# Altium footprint library descret_pcb.PcbLib: 152 footprints (part 9 of 10)
Each footprint in its own frame and in the unit in brackets; x right, y up, seen from the top. Pads: shape width x height; smd on the part's side, far side on the other; paste and mask are expansions set on the pad; w line width, h text height; cw(c..) or ccw(c..) is an arc to the next point about the centre after c.
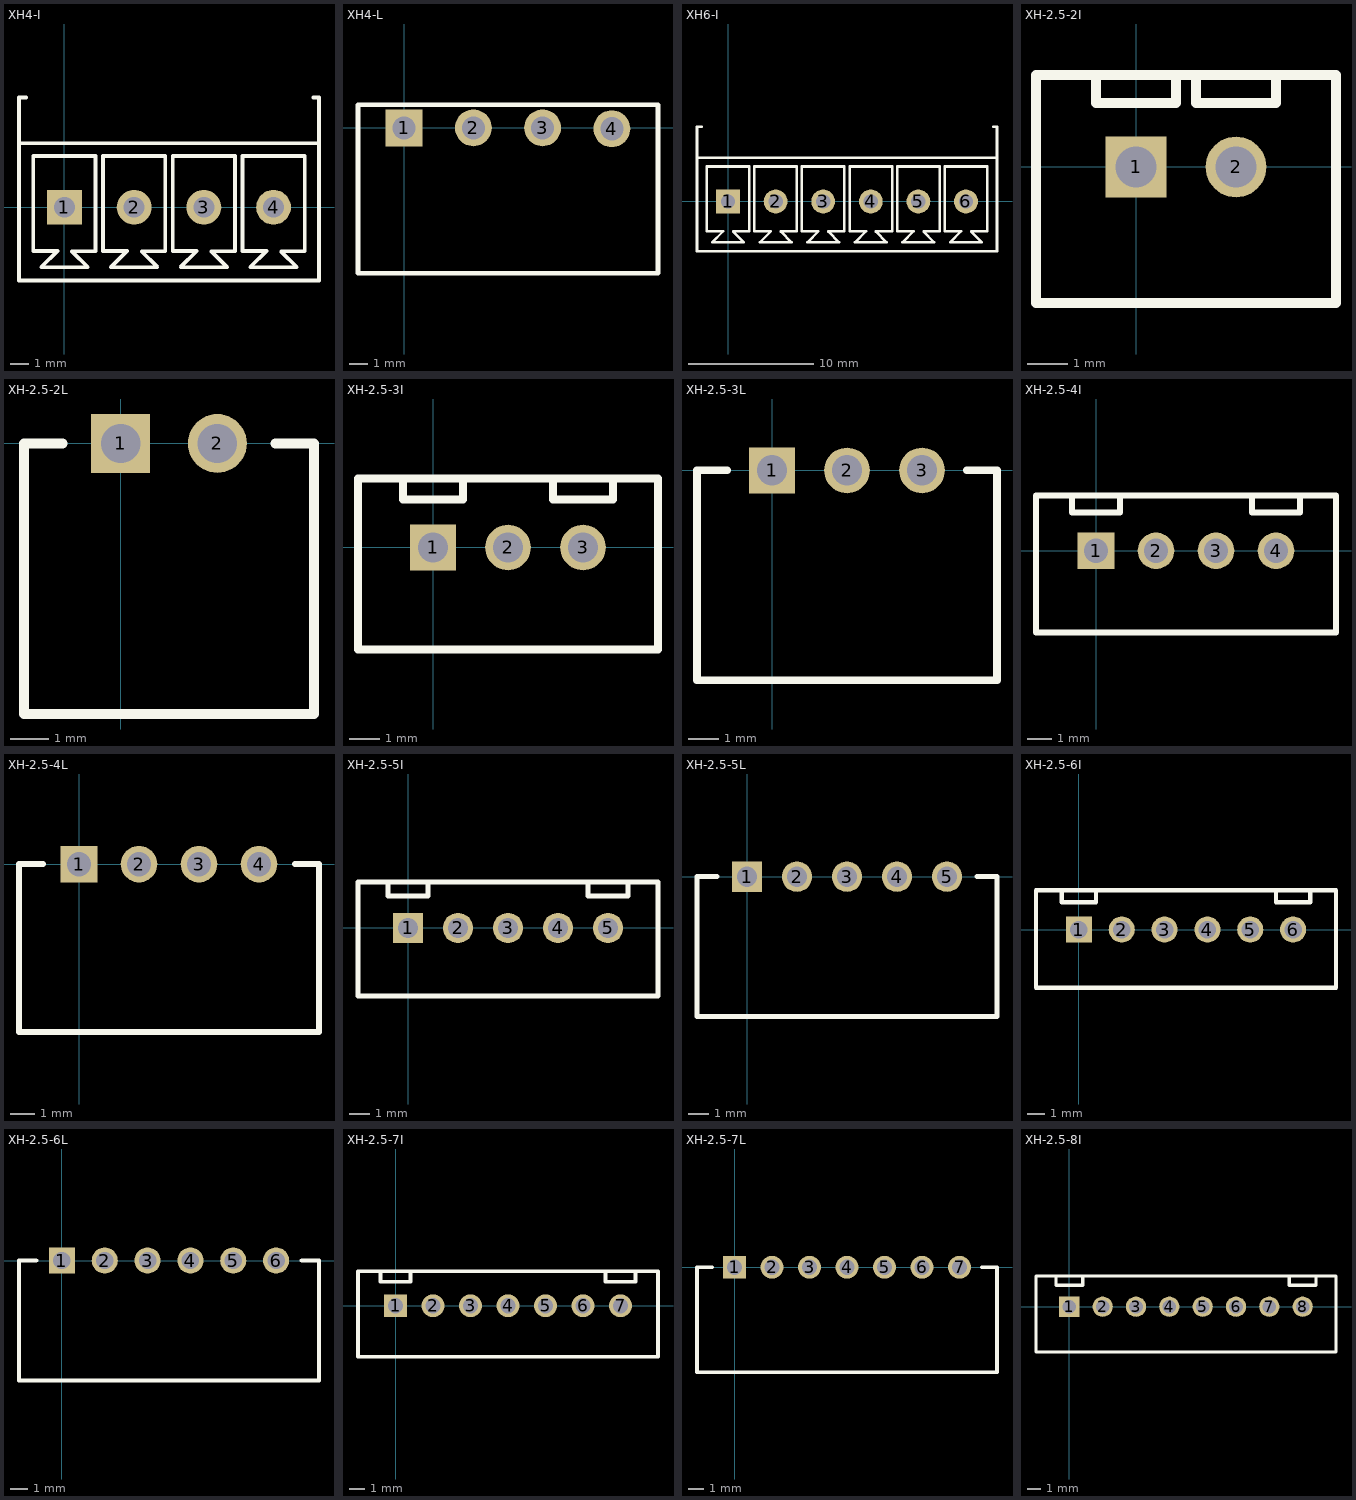
[diagram p8: the footprints below, top view; thin cyan lines are the x and y axes]

## XH4-I [mil]
pads (4):
  rect 75x75 hole 45: 1(0,0)
  round 75 hole 45: 2(150,0) 3(300,0) 4(450,0)
TopOverlay:
  lines w8: -82.68,236.22 -97.83,236.22 -97.83,137.8 ; -66.93,109.65 -66.93,-93.9 -15.16,-93.9 -50,-128.74 50,-128.74 16.33,-95.07 16.33,-94.49 ; -66.93,110.24 66.93,110.24 66.93,-94.49 16.92,-94.49 ; 83.07,109.65 83.07,-93.9 134.84,-93.9 100,-128.74 200,-128.74 166.33,-95.07 166.33,-94.49 ; 83.07,110.24 216.93,110.24 216.93,-94.49 166.92,-94.49 ; 233.07,109.65 233.07,-93.9 284.84,-93.9 250,-128.74 350,-128.74 316.33,-95.07 316.33,-94.49 ; 233.07,110.24 366.93,110.24 366.93,-94.49 316.92,-94.49 ; 383.07,109.65 383.07,-93.9 434.84,-93.9 400,-128.74 500,-128.74 466.33,-95.07 466.33,-94.49 ; 383.07,110.24 516.93,110.24 516.93,-94.49 466.92,-94.49 ; 536.22,236.22 547.83,236.22 547.83,137.8 ; -97.83,137.8 -97.83,-157.48 547.84,-157.48 547.83,137.8 ; -97.83,137.79 547.84,137.79
3D body "User Library-1803442.STEP": height 362.2, standoff -133.86, extent -102.36,-152 552.36,133.43

## XH4-L [mil]
pads (4):
  rect 80x80 hole 50: 1(0,0)
  round 80 hole 50: 2(150,0) 3(300,0) 4(450,-2)
TopOverlay:
  lines w10: -100,-315 550,-315 550,50 -100,50 -100,-315

## XH6-I [mil]
pads (6):
  rect 75x75 hole 45: 1(0,0)
  round 75 hole 45: 2(150,0) 3(300,0) 4(450,0) 5(600,0) 6(750,0)
TopOverlay:
  lines w8: -82.68,236.22 -97.83,236.22 -97.83,137.8 ; -66.93,109.65 -66.93,-93.9 -15.16,-93.9 -50,-128.74 50,-128.74 16.33,-95.07 16.33,-94.49 ; -66.93,110.24 66.93,110.24 66.93,-94.49 16.92,-94.49 ; 83.07,109.65 83.07,-93.9 134.84,-93.9 100,-128.74 200,-128.74 166.33,-95.07 166.33,-94.49 ; 83.07,110.24 216.93,110.24 216.93,-94.49 166.92,-94.49 ; 233.07,109.65 233.07,-93.9 284.84,-93.9 250,-128.74 350,-128.74 316.33,-95.07 316.33,-94.49 ; 233.07,110.24 366.93,110.24 366.93,-94.49 316.92,-94.49 ; 383.07,109.65 383.07,-93.9 434.84,-93.9 400,-128.74 500,-128.74 466.33,-95.07 466.33,-94.49 ; 383.07,110.24 516.93,110.24 516.93,-94.49 466.92,-94.49 ; 533.07,109.65 533.07,-93.9 584.84,-93.9 550,-128.74 650,-128.74 616.33,-95.07 616.33,-94.49 ; 533.07,110.24 666.93,110.24 666.93,-94.49 616.92,-94.49 ; 683.07,109.65 683.07,-93.9 734.84,-93.9 700,-128.74 800,-128.74 766.33,-95.07 766.33,-94.49 ; 683.07,110.24 816.93,110.24 816.93,-94.49 766.92,-94.49 ; 836.22,236.22 847.83,236.22 847.83,137.8 ; -97.83,137.79 847.83,137.79 ; -97.83,137.8 -97.83,-157.48 847.83,-157.48 847.83,137.8
3D body "User Library-1803468.STEP": height 362.2, standoff -133.86, extent -102.43,-153.2 852.29,132.24

## XH-2.5-2I [mil]
pads (2):
  rect 60x60 hole 40: 1(0,0)
  round 60 hole 40: 2(98.43,0)
TopOverlay:
  lines w10: -39.37,90.55 -39.37,62.99 39.37,62.99 39.37,90.55 ; 59.06,90.55 59.06,62.99 137.8,62.99 137.8,90.55 ; -98.43,-133.86 -98.43,90.55 196.85,90.55 196.85,-133.86 -98.43,-133.86

## XH-2.5-2L [mil]
pads (2):
  rect 60x60 hole 40: 1(0,0)
  round 60 hole 40: 2(98.43,0)
TopOverlay:
  lines w10: -59.06,0 -98.43,0 -98.43,-275.59 196.85,-275.59 196.85,0 157.48,0

## XH-2.5-3I [mil]
pads (3):
  rect 60x60 hole 40: 1(0,0)
  round 60 hole 40: 2(98.43,0) 3(196.85,0)
TopOverlay:
  lines w10: -39.37,90.55 -39.37,62.99 39.37,62.99 39.37,90.55 ; 157.48,90.55 157.48,62.99 236.22,62.99 236.22,90.55 ; -98.43,-133.86 295.28,-133.86 295.28,90.55 -98.43,90.55 -98.43,-133.86

## XH-2.5-3L [mil]
pads (3):
  rect 60x60 hole 40: 1(0,0)
  round 60 hole 40: 2(98.43,0) 3(196.85,0)
TopOverlay:
  lines w10: -59.06,0 -98.43,0 -98.43,-275.59 295.28,-275.59 295.28,0 255.91,0

## XH-2.5-4I [mil]
pads (4):
  rect 60x60 hole 40: 1(0,0)
  round 60 hole 40: 2(98.43,0) 3(196.85,0) 4(295.28,0)
TopOverlay:
  lines w10: -39.37,90.55 -39.37,62.99 39.37,62.99 39.37,90.55 ; 255.91,90.55 255.91,62.99 334.65,62.99 334.65,90.55 ; -98.43,-133.86 -98.43,90.55 393.7,90.55 393.7,-133.86 -98.43,-133.86

## XH-2.5-4L [mil]
pads (4):
  rect 60x60 hole 40: 1(0,0)
  round 60 hole 40: 2(98.43,0) 3(196.85,0) 4(295.28,0)
TopOverlay:
  lines w10: -59.06,0 -98.43,0 -98.43,-275.59 393.7,-275.59 393.7,0 354.33,0

## XH-2.5-5I [mil]
pads (5):
  rect 60x60 hole 40: 1(0,0)
  round 60 hole 40: 2(98.43,0) 3(196.85,0) 4(295.28,0) 5(393.7,0)
TopOverlay:
  lines w10: -39.37,90.55 -39.37,62.99 39.37,62.99 39.37,90.55 ; 354.33,90.55 354.33,62.99 433.07,62.99 433.07,90.55 ; -98.43,-133.86 -98.43,90.55 492.13,90.55 492.13,-133.86 -98.43,-133.86

## XH-2.5-5L [mil]
pads (5):
  rect 60x60 hole 40: 1(0,0)
  round 60 hole 40: 2(98.43,0) 3(196.85,0) 4(295.28,0) 5(393.7,0)
TopOverlay:
  lines w10: -59.06,0 -98.43,0 -98.43,-275.59 492.13,-275.59 492.13,0 452.76,0

## XH-2.5-6I [mil]
pads (6):
  rect 60x60 hole 40: 1(0,0)
  round 60 hole 40: 2(98.43,0) 3(196.85,0) 4(295.28,0) 5(393.7,0) 6(492.13,0)
TopOverlay:
  lines w10: -39.37,90.55 -39.37,62.99 39.37,62.99 39.37,90.55 ; 452.76,90.55 452.76,62.99 531.5,62.99 531.5,90.55 ; -98.43,-133.86 590.55,-133.86 590.55,90.55 -98.43,90.55 -98.43,-133.86

## XH-2.5-6L [mil]
pads (6):
  rect 60x60 hole 40: 1(0,0)
  round 60 hole 40: 2(98.43,0) 3(196.85,0) 4(295.28,0) 5(393.7,0) 6(492.13,0)
TopOverlay:
  lines w10: -59.06,0 -98.43,0 -98.43,-275.59 590.55,-275.59 590.55,0 551.18,0

## XH-2.5-7I [mil]
pads (7):
  rect 60x60 hole 40: 1(0,0)
  round 60 hole 40: 2(98.43,0) 3(196.85,0) 4(295.28,0) 5(393.7,0) 6(492.13,0) 7(590.55,0)
TopOverlay:
  lines w10: -39.37,90.55 -39.37,62.99 39.37,62.99 39.37,90.55 ; 551.18,90.55 551.18,62.99 629.92,62.99 629.92,90.55 ; -98.43,-133.86 -98.43,90.55 688.98,90.55 688.98,-133.86 -98.43,-133.86

## XH-2.5-7L [mil]
pads (7):
  rect 60x60 hole 40: 1(0,0)
  round 60 hole 40: 2(98.43,0) 3(196.85,0) 4(295.28,0) 5(393.7,0) 6(492.13,0) 7(590.55,0)
TopOverlay:
  lines w10: -59.06,0 -98.43,0 -98.43,-275.59 688.98,-275.59 688.98,0 649.61,0

## XH-2.5-8I [mil]
pads (8):
  rect 60x60 hole 40: 1(0,0)
  round 60 hole 40: 2(98.43,0) 3(196.85,0) 4(295.28,0) 5(393.7,0) 6(492.13,0) 7(590.55,0) 8(688.98,0)
TopOverlay:
  lines w10: -39.37,90.55 -39.37,62.99 39.37,62.99 39.37,90.55 ; 649.61,90.55 649.61,62.99 728.35,62.99 728.35,90.55 ; -98.43,-133.86 -98.43,90.55 787.4,90.55 787.4,-133.86 -98.43,-133.86